# Altium footprint library PCB - POWER - WE750341793.PCBLIB: 1 footprints
Each footprint in its own frame and in the unit in brackets; x right, y up, seen from the top. Pads: shape width x height; smd on the part's side, far side on the other; paste and mask are expansions set on the pad; w line width, h text height; cw(c..) or ccw(c..) is an arc to the next point about the centre after c.
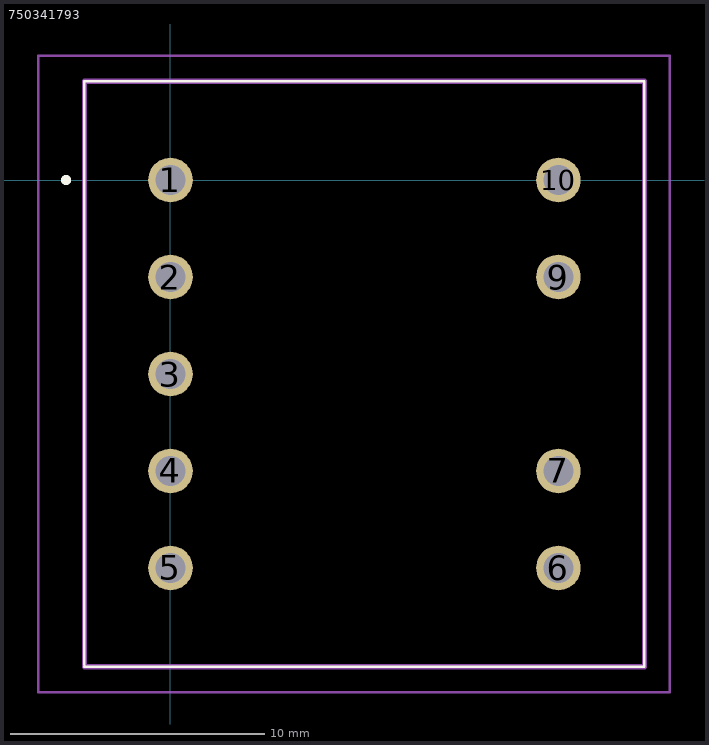
[diagram p0: the footprint, top view; thin cyan lines are the x and y axes]

## 750341793 [mm]
pads (9):
  round 1.755 hole 1.17: 1(0,0) 2(0,-3.81) 3(0,-7.62) 4(0,-11.43) 5(0,-15.24) 6(15.24,-15.24) 7(15.24,-11.43) 9(15.24,-3.81) 10(15.24,0)
Top Overlay:
  lines w0.1: -3.38,-19.12 18.62,-19.12 18.62,3.88 -3.38,3.88 -3.38,-19.05
  lines w0.2: -4.2,0 ccw(c-4.1,0) -4,0 ccw(c-4.1,0) -4.2,0
Top Assembly:
  lines w0.2: -3.38,-19.12 18.62,-19.12 18.62,3.88 -3.38,3.88 -3.38,-19.12
Mechanical 15:
  lines w0.1: -5.2,-20.12 -5.2,4.88 19.62,4.88 19.62,-20.12 -5.2,-20.12
3D body "750341793.stp": height 17.63, standoff -5, extent -3.38,-19.12 18.62,3.88